# EAGLE library part DECADE-SM16716-ESOP8 (library DECADE-libraries)
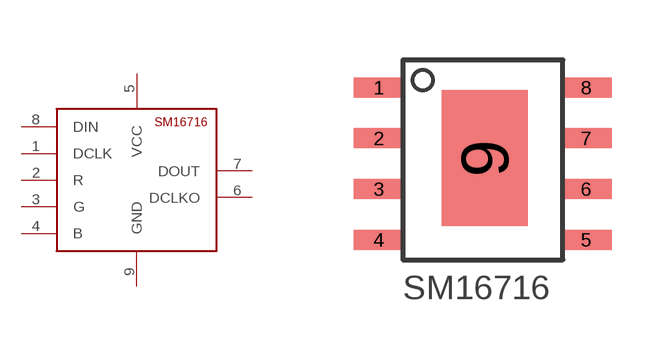
[diagram p4: symbol with the pads of DECADE-SM16716; footprint DECADE-SM16716]

Designator prefix -

## DECADE-SM16716-ESOP8  [DECADE-SM16716]
1  DCLK
2  R
3  G
4  B
5  VCC
6  DCLKO
7  DOUT
8  DIN
9  GND

## Footprint DECADE-SM16716 (pad centres in mm)
smd 1.27 x 0.5: 1 -0.1,3.81; 2 -0.1,2.54; 3 -0.1,1.27; 4 -0.1,0; 5 5.08,0; 6 5.08,1.27; 7 5.08,2.54; 8 5.08,3.81
smd 2.15 x 3.402: 9 2.54,2.04